# Altium schematic symbol library S25FS512SDSBHV210.SchLib: 1 symbol
Pins are listed as number, name and electrical type; pins without a type are passive.

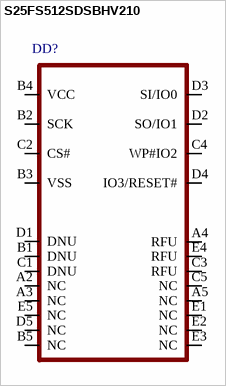
[diagram p0: symbol S25FS512SDSBHV210]

## S25FS512SDSBHV210
designator DD?
pins: A2 NC, A3 NC, A4 RFU, A5 NC, B1 DNU, B2 SCK, B3 VSS, B4 VCC, B5 NC, C1 DNU, C2 CS#, C3 RFU, C4 WP#IO2, C5 NC, D1 DNU, D2 SO/IO1, D3 SI/IO0, D4 IO3/RESET#, D5 NC, E1 NC, E2 NC, E3 NC, E4 RFU, E5 NC